# Altium footprint library Microchip.PcbLib: 3 footprints
Each footprint in its own frame and in the unit in brackets; x right, y up, seen from the top. Pads: shape width x height; smd on the part's side, far side on the other; paste and mask are expansions set on the pad; w line width, h text height; cw(c..) or ccw(c..) is an arc to the next point about the centre after c.
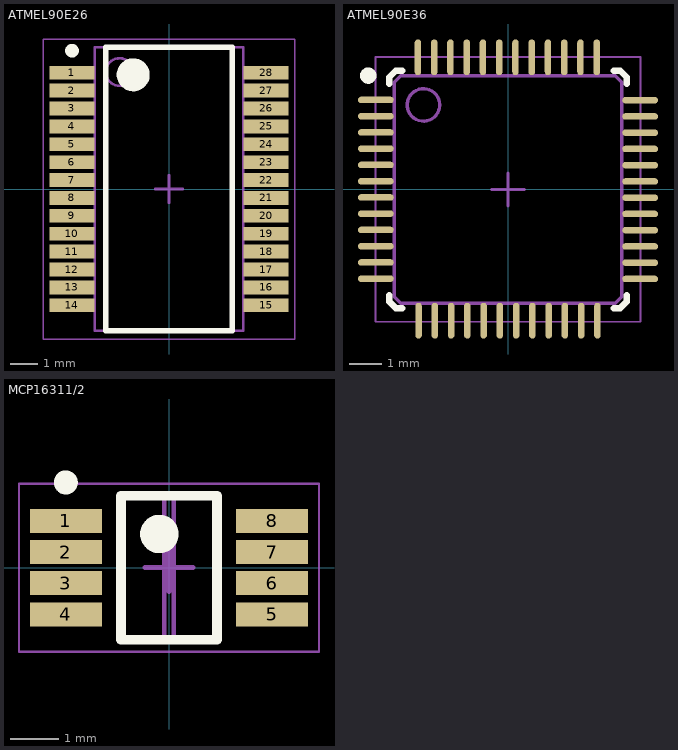
[diagram p0: the footprints below, top view; thin cyan lines are the x and y axes]

## ATMEL90E26 [mm] "Single-phase energy meter"
height 1.99
pads (28):
  rect 1.65x0.5 smd: 1(-3.525,4.225) 2(-3.525,3.575) 3(-3.525,2.925) 4(-3.525,2.275) 5(-3.525,1.625) 6(-3.525,0.975) 7(-3.525,0.325) 8(-3.525,-0.325) 9(-3.525,-0.975) 10(-3.525,-1.625) 11(-3.525,-2.275) 12(-3.525,-2.925) 13(-3.525,-3.575) 14(-3.525,-4.225) 15(3.525,-4.225) 16(3.525,-3.575) 17(3.525,-2.925) 18(3.525,-2.275) 19(3.525,-1.625) 20(3.525,-0.975) 21(3.525,-0.325) 22(3.525,0.325) 23(3.525,0.975) 24(3.525,1.625) 25(3.525,2.275) 26(3.525,2.925) 27(3.525,3.575) 28(3.525,4.225)
Top Overlay:
  circle w0.6: c-1.3,4.15 r0.3
  circle w0.25: c-3.525,5.025 r0.125
  lines w0.2: -2.3,-5.15 2.3,-5.15 2.3,5.15 -2.3,5.15 -2.3,-5.15
Mechanical 13:
  circle w0.1: c-1.8,4.25 r0.5
  lines w0.1: -2.7,-5.15 2.7,-5.15 2.7,5.15 -2.7,5.15 -2.7,-5.15
Mechanical 15:
  lines w0.05: -4.575,-5.45 4.575,-5.45 4.575,5.45 -4.575,5.45 -4.575,-5.45
  lines w0.1: -0.5,0 0.5,0 ; 0,-0.5 0,0.5
3D body "SOP65P780X199-28N.step": height 1.99, standoff 0, extent -3.888,-5.15 3.888,5.15

## ATMEL90E36 [mm] "QFN, 48-Leads, Body 7,00x7,00mm, Pitch 0,50mm, IPC Medium Density"
height 1.2
pads (48):
  oval 1.1x0.2 smd: 1(-4.064,2.754) 2(-4.064,2.254) 3(-4.064,1.754) 4(-4.064,1.254) 5(-4.064,0.754) 6(-4.064,0.254) 7(-4.064,-0.246) 8(-4.064,-0.746) 9(-4.064,-1.246) 10(-4.064,-1.746) 11(-4.064,-2.246) 12(-4.064,-2.746) 25(4.064,-2.754) 26(4.064,-2.254) 27(4.064,-1.754) 28(4.064,-1.254) 29(4.064,-0.754) 30(4.064,-0.254) 31(4.064,0.246) 32(4.064,0.746) 33(4.064,1.246) 34(4.064,1.746) 35(4.064,2.246) 36(4.064,2.746)
  oval 0.2x1.1 smd: 13(-2.75,-4.037) 14(-2.25,-4.037) 15(-1.75,-4.037) 16(-1.25,-4.037) 17(-0.75,-4.037) 18(-0.25,-4.037) 19(0.25,-4.037) 20(0.75,-4.037) 21(1.25,-4.037) 22(1.75,-4.037) 23(2.25,-4.037) 24(2.75,-4.037) 37(2.73,4.064) 38(2.23,4.064) 39(1.73,4.064) 40(1.23,4.064) 41(0.73,4.064) 42(0.23,4.064) 43(-0.27,4.064) 44(-0.77,4.064) 45(-1.27,4.064) 46(-1.77,4.064) 47(-2.27,4.064) 48(-2.77,4.064)
Top Overlay:
  circle w0.25: c-4.3,3.5 r0.125
  lines w0.2: -3.65,-3.25 -3.65,-3.45 -3.45,-3.65 -3.25,-3.65 ; -3.65,3.25 -3.65,3.45 -3.45,3.65 -3.25,3.65 ; 3.25,-3.65 3.45,-3.65 3.65,-3.45 3.65,-3.25 ; 3.25,3.65 3.45,3.65 3.65,3.45 3.65,3.25
Mechanical 13:
  circle w0.1: c-2.6,2.6 r0.5
  lines w0.1: -3.5,-3.3 -3.5,3.3 -3.3,3.5 3.3,3.5 3.5,3.3 3.5,-3.3 3.3,-3.5 -3.3,-3.5 -3.5,-3.3
Mechanical 15:
  lines w0.05: -4.075,-4.075 4.075,-4.075 4.075,4.075 -4.075,4.075 -4.075,-4.075
  lines w0.1: -0.5,0 0.5,0 ; 0,-0.5 0,0.5
3D body "QFN50P700X700X120-48N.step": height 1.2, standoff 0, extent -3.65,-3.65 3.65,3.65

## MCP16311/2 [mm] "MSOP-8"
height 1.1
pads (8):
  rect 1.5x0.5 smd: 1(-2.15,0.975) 2(-2.15,0.325) 3(-2.15,-0.325) 4(-2.15,-0.975) 5(2.15,-0.975) 6(2.15,-0.325) 7(2.15,0.325) 8(2.15,0.975)
Top Overlay:
  circle w0.25: c-2.15,1.775 r0.125
  circle w0.4: c-0.2,0.7 r0.2
  lines w0.2: -1,-1.5 -1,1.5 1,1.5 1,-1.5 -1,-1.5
Mechanical 13:
  lines w0.1: -0.1,-1.5 -0.1,1.5 0.1,1.5 0.1,-1.5 -0.1,-1.5
Mechanical 15:
  lines w0.05: -3.125,-1.75 -3.125,1.75 3.125,1.75 3.125,-1.75 -3.125,-1.75
  lines w0.1: -0.5,0 0.5,0 ; 0,-0.5 0,0.5
3D body "TSOP65P490X110-8N.step": height 1.1, standoff 0, extent -2.45,-1.5 2.45,1.5